# Altium schematic symbol library BMP.SchLib: 1 symbol
Pins are listed as number, name and electrical type; pins without a type are passive.

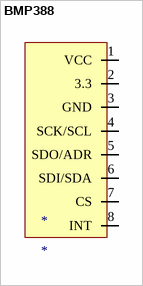
[diagram p0: symbol BMP388]

## BMP388
designator *
footprint BMP388
pins: 1 VCC, 2 3.3, 3 GND, 4 SCK/SCL, 5 SDO/ADR, 6 SDI/SDA, 7 CS, 8 INT